# EAGLE library part AVRISP (library TinyTony_ShenzenReady)
AVR ISP HEADER Standard 6 pin header for AVR programming
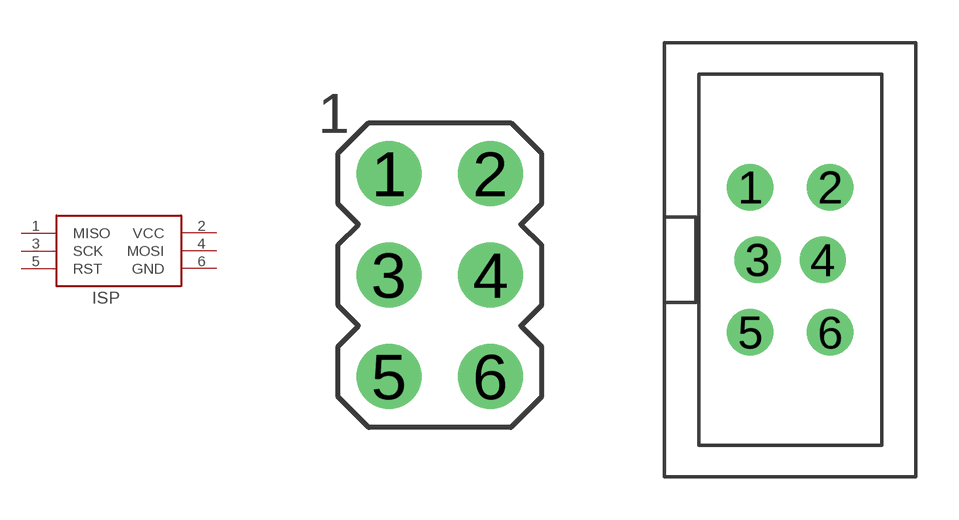
[diagram p3: symbol with the pads of AVRISP; footprints AVRISP, AVRISP-BOX]

Designator prefix ISP

## AVRISP-6  [AVRISP]
1  MISO  in
2  VCC  pwr
3  SCK  out
4  MOSI  out
5  RST  out
6  GND  pwr

## AVRISP-BOX  [AVRISP-BOX]
Pads as for AVRISP

## AVRISPPOGOPADS  [AVRISP-50MIL]
Pads as for AVRISP

## AVRISPPOGOPINS  [POGO-50MIL-6PADS]
Pads as for AVRISP

## Footprint AVRISP (pad centres in mm)
drill 0.9 pad 1.626: 1 -1.27,2.54; 2 1.27,2.54; 3 -1.27,0; 4 1.27,0; 5 -1.27,-2.54; 6 1.27,-2.54

## Footprint AVRISP-BOX (pad centres in mm)
drill 0.9 pad 1.626: 1 -1.397,2.54; 2 1.397,2.54; 3 -1.143,0; 4 1.143,0; 5 -1.397,-2.54; 6 1.397,-2.54

## Footprint AVRISP-50MIL (pad centres in mm)
drill 0.35 pad 0.8: 1 -1.27,2.54; 2 0,2.54; 3 -1.27,1.27; 4 0,1.27; 5 -1.27,0; 6 0,0

## Footprint POGO-50MIL-6PADS (pad centres in mm)
smd 0.965 x 1.016: 1 -1.27,0.508; 3 0,0.508; 5 1.27,0.508
smd 0.965 x 1.016 bottom: 2 -1.27,0.508; 4 0,0.508; 6 1.27,0.508